# Altium footprint library projectSpecificLib_pcb.PcbLib: 2 footprints
Each footprint in its own frame and in the unit in brackets; x right, y up, seen from the top. Pads: shape width x height; smd on the part's side, far side on the other; paste and mask are expansions set on the pad; w line width, h text height; cw(c..) or ccw(c..) is an arc to the next point about the centre after c.
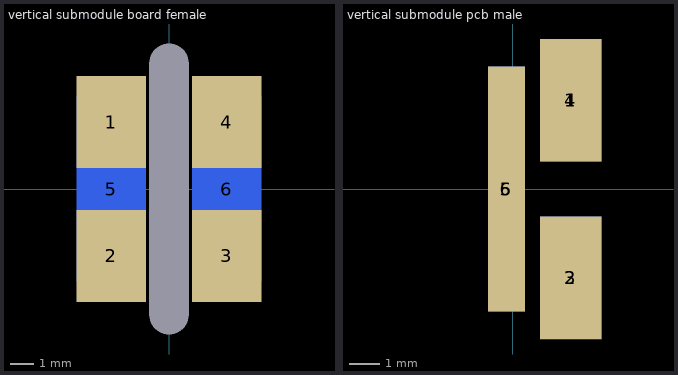
[diagram p0: the footprints below, top view; thin cyan lines are the x and y axes]

## vertical submodule board female [mm] "for 2x2 right angle raised pogo pins"
pads (7):
  round 0 hole 1.7 slot 12.6 at 90 deg unplated: 0(0,0)
  rect 3x4 smd mask+0: 1(-2.5,2.9) 2(-2.5,-2.9) 3(2.5,-2.9) 4(2.5,2.9)
  rect 3x8 smd far side mask+0: 5(-2.5,0) 6(2.5,0)

## vertical submodule pcb male [mm] "carrier for 2x2 pogo pins"
pads (6):
  rect 2x4 smd mask+0: 1(1.9,2.9) 2(1.9,-2.9)
  rect 2x4 smd far side mask+0: 3(1.9,-2.9) 4(1.9,2.9)
  rect 1.2x8 smd mask+0: 5(-0.2,0)
  rect 1.2x8 smd far side mask+0: 6(-0.2,0)